# EAGLE library part PHP-3500 (library RVschwarzenegger2)
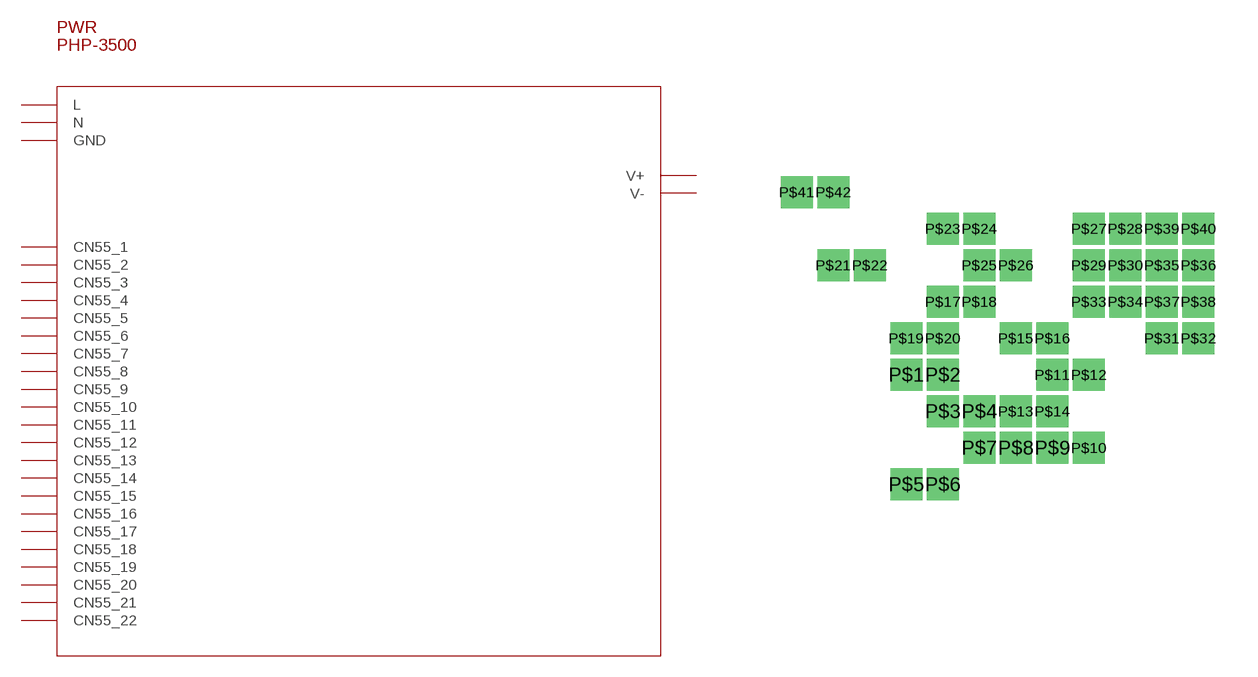
[diagram p1: symbol with the pads of PHP-3500; footprint PHP-3500]

Designator prefix PWR

## PHP-3500  [PHP-3500]
P$1  CN55_1
P$2  CN55_2
P$3  CN55_3
P$4  CN55_4
P$5  CN55_5
P$6  CN55_6
P$7  CN55_7
P$8  CN55_8
P$9  CN55_9
P$10  CN55_10
P$11  CN55_11
P$12  CN55_12
P$13  CN55_13
P$14  CN55_14
P$15  CN55_15
P$16  CN55_16
P$17  CN55_17
P$18  CN55_18
P$19  CN55_19
P$20  CN55_20
P$21  CN55_21
P$22  CN55_22
P$23  GND
P$24  L
P$25  N
P$26  V+
P$27  V-

## Footprint PHP-3500 (pad centres in mm)
drill 0.6 square: P$1 0,0; P$2 1.27,0; P$3 1.27,-1.27; P$4 2.54,-1.27; P$5 0,-3.81; P$6 1.27,-3.81; P$7 2.54,-2.54; P$8 3.81,-2.54; P$9 5.08,-2.54; P$10 6.35,-2.54; P$11 5.08,0; P$12 6.35,0; P$13 3.81,-1.27; P$14 5.08,-1.27; P$15 3.81,1.27; P$16 5.08,1.27; P$17 1.27,2.54; P$18 2.54,2.54; P$19 0,1.27; P$20 1.27,1.27; P$21 -2.54,3.81; P$22 -1.27,3.81; P$23 1.27,5.08; P$24 2.54,5.08; P$25 2.54,3.81; P$26 3.81,3.81; P$27 6.35,5.08; P$28 7.62,5.08; P$29 6.35,3.81; P$30 7.62,3.81; P$31 8.89,1.27; P$32 10.16,1.27; P$33 6.35,2.54; P$34 7.62,2.54; P$35 8.89,3.81; P$36 10.16,3.81; P$37 8.89,2.54; P$38 10.16,2.54; P$39 8.89,5.08; P$40 10.16,5.08; P$41 -3.81,6.35; P$42 -2.54,6.35